# EAGLE library part AE-MICRO-SD-DIP (library MyLibrary)
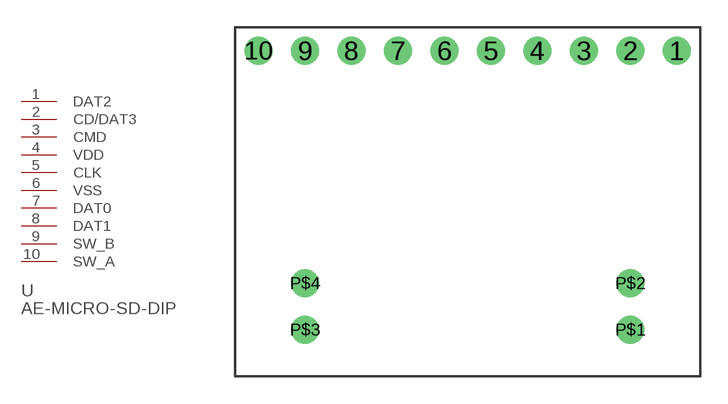
[diagram p23: symbol with the pads of AE-MICRO-SD-DIP; footprint AE-MICRO-SD-DIP]

Designator prefix -

## AE-MICRO-SD-DIP  [AE-MICRO-SD-DIP]
1  DAT2
2  CD/DAT3
3  CMD
4  VDD
5  CLK
6  VSS
7  DAT0
8  DAT1
9  SW_B
10  SW_A

## Footprint AE-MICRO-SD-DIP (pad centres in mm)
drill 1: 1 11.43,17.78; 2 8.89,17.78; 3 6.35,17.78; 4 3.81,17.78; 5 1.27,17.78; 6 -1.27,17.78; 7 -3.81,17.78; 8 -6.35,17.78; 9 -8.89,17.78; 10 -11.43,17.78; P$1 8.89,2.54; P$2 8.89,5.08; P$3 -8.89,2.54; P$4 -8.89,5.08